# EAGLE library part JTAG-MINI (library mTrain)
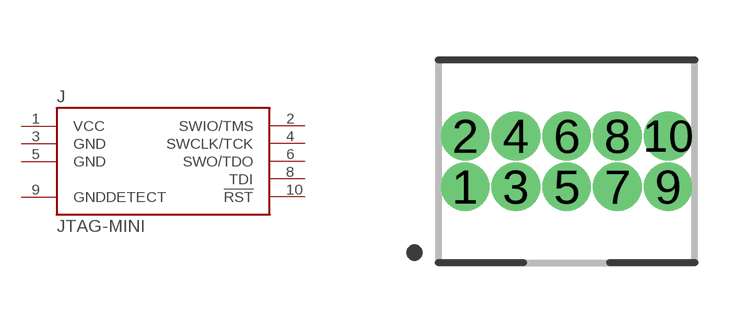
[diagram p6: symbol with the pads of FTSH-105-01-F-D-K; footprint FTSH-105-01-F-D-K]

Designator prefix J

## JTAG-MINI  [FTSH-105-01-F-D-K]
1  VCC
2  SWIO/TMS
3  GND
4  SWCLK/TCK
5  GND
6  SWO/TDO
8  TDI
9  GNDDETECT
10  !RST

## Footprint FTSH-105-01-F-D-K (pad centres in mm)
drill 0.71 pad 1.01: 1 -2.54,-0.635; 2 -2.54,0.635; 3 -1.27,-0.635; 4 -1.27,0.635; 5 0,-0.635; 6 0,0.635; 7 1.27,-0.635; 8 1.27,0.635; 9 2.54,-0.635; 10 2.54,0.635